# Altium footprint library Kilian_UCC_Library.PcbLib: 153 footprints (part 9 of 10)
Each footprint in its own frame and in the unit in brackets; x right, y up, seen from the top. Pads: shape width x height; smd on the part's side, far side on the other; paste and mask are expansions set on the pad; w line width, h text height; cw(c..) or ccw(c..) is an arc to the next point about the centre after c.
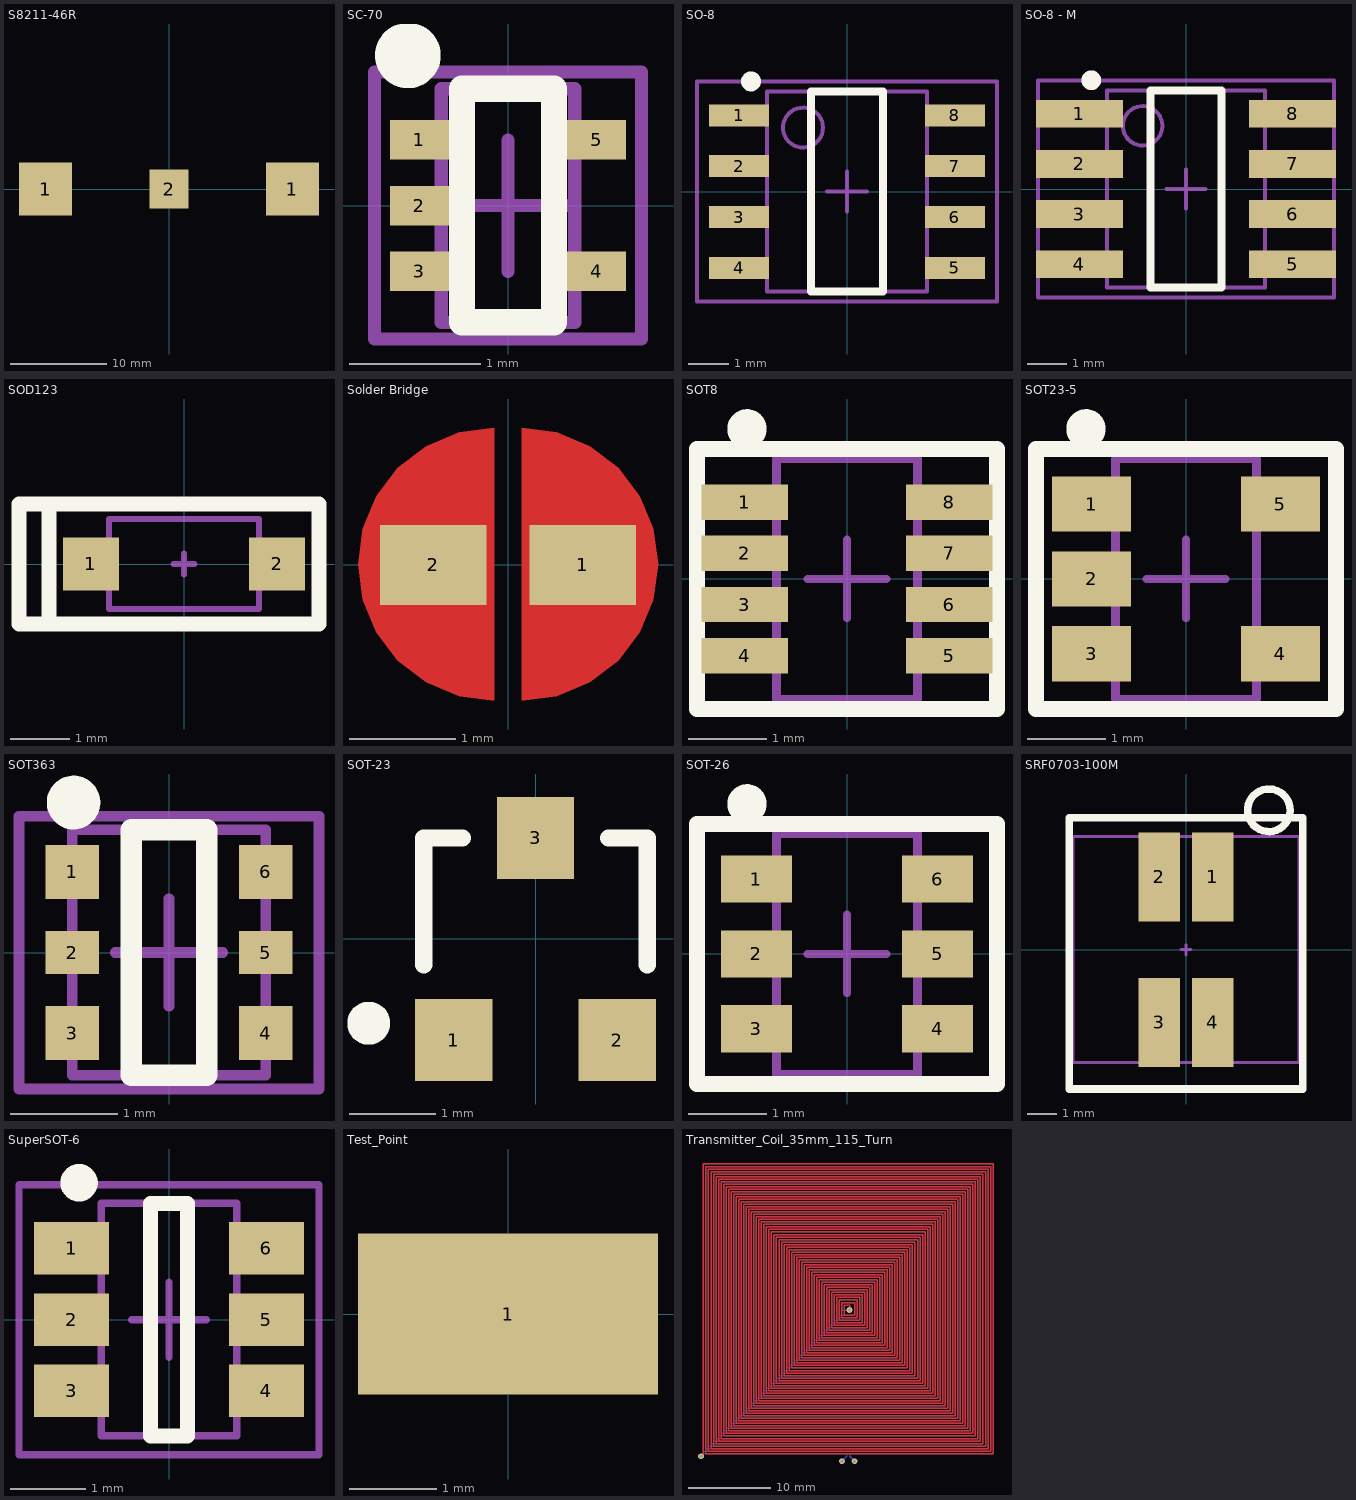
[diagram p8: the footprints below, top view; thin cyan lines are the x and y axes]

## S8211-46R [mm]
pads (3):
  rect 5.5x5.5 smd: 1(-12.8,0) 1(12.8,0)
  rect 4x4 smd: 2(0,0)
3D body: height 4, standoff 0, extent -15.35,-10.986 15.351,8.95

## SC-70 [mm]
height 1.45
pads (5):
  rect 0.45x0.3 smd mask+0.05: 1(-0.675,0.5) 2(-0.675,0) 3(-0.675,-0.5) 4(0.675,-0.5) 5(0.675,0.5)
Top Overlay:
  circle w0.25: c-0.762,1.143 r0.125
  lines w0.2: -0.35,-0.889 0.35,-0.889 0.35,0.889 -0.35,0.889 -0.35,-0.889
Mechanical 13:
  lines w0.1: -0.508,-0.889 -0.508,0.889 0.508,0.889 0.508,-0.889 -0.508,-0.889
Mechanical 15:
  lines w0.1: -0.5,0 0.5,0 ; 0,-0.5 0,0.5 ; -1.016,-1.016 -1.016,1.016 1.016,1.016 1.016,-1.016 -1.016,-1.016
3D body: height 1.45, standoff 0, extent -0.9,-0.762 0.9,0.762

## SO-8 [mm] "SOIC, 8-Leads, Body 4.9x3.9mm, Pitch 1.27mm, IPC Medium Density"
height 1.75
pads (8):
  rect 1.5x0.55 smd: 1(-2.7,1.905) 2(-2.7,0.635) 3(-2.7,-0.635) 4(-2.7,-1.905) 5(2.7,-1.905) 6(2.7,-0.635) 7(2.7,0.635) 8(2.7,1.905)
Top Overlay:
  circle w0.25: c-2.4,2.755 r0.125
  lines w0.2: -0.9,-2.5 0.9,-2.5 0.9,2.5 -0.9,2.5 -0.9,-2.5
Mechanical 13:
  circle w0.1: c-1.1,1.6 r0.5
  lines w0.1: -2,-2.5 2,-2.5 2,2.5 -2,2.5 -2,-2.5
Mechanical 15:
  lines w0.1: -0.5,0 0.5,0 ; 0,-0.5 0,0.5 ; -3.75,-2.75 3.75,-2.75 3.75,2.75 -3.75,2.75 -3.75,-2.75
3D body: height 1.75, standoff 0, extent -2,-2.5 2,2.5

## SO-8 - M [mm] "SOIC, 8-Leads, Body 4.9x3.9mm, Pitch 1.27mm, IPC Medium Density"
height 1.75
pads (8):
  rect 2.2x0.7 smd: 1(-2.7,1.905) 2(-2.7,0.635) 3(-2.7,-0.635) 4(-2.7,-1.905) 5(2.7,-1.905) 6(2.7,-0.635) 7(2.7,0.635) 8(2.7,1.905)
Top Overlay:
  circle w0.25: c-2.4,2.755 r0.125
  lines w0.2: -0.9,-2.5 -0.9,2.5 0.9,2.5 0.9,-2.5 -0.9,-2.5
Mechanical 13:
  circle w0.1: c-1.1,1.6 r0.5
  lines w0.1: -2,-2.5 -2,2.5 2,2.5 2,-2.5 -2,-2.5
Mechanical 15:
  lines w0.1: -0.5,0 0.5,0 ; 0,-0.5 0,0.5 ; -3.75,-2.75 -3.75,2.75 3.75,2.75 3.75,-2.75 -3.75,-2.75
3D body: height 1.75, standoff 0, extent -2,-2.5 2,2.5

## SOD123 [mm] "SOD123"
height 0.55
pads (2):
  rect 0.95x0.9 smd: 1(-1.575,0) 2(1.575,0)
Top Overlay:
  lines w0.254: -2.286,-1.016 2.286,-1.016 2.286,1.016 -2.286,1.016 ; -2.286,-1.016 -2.286,1.016 ; -2.286,-1.016 -2.794,-1.016 -2.794,1.016 -2.286,1.016
Mechanical 13:
  lines w0.1: -1.27,-0.762 -1.27,0.762 1.27,0.762 1.27,-0.762 -1.27,-0.762
Mechanical 15:
  lines w0.1: -0.175,0 0.175,0 ; 0,-0.175 0,0.175 ; -1.27,-0.762 -1.27,0.762 1.27,0.762 1.27,-0.762 -1.27,-0.762
3D body: height 1.35, standoff 0, extent -1.27,-0.762 1.27,0.762

## Solder Bridge [mm]
pads (2):
  rect 1x0.75 smd: 1(0.7,0) 2(-0.7,0)
Top Layer:
  region: -0.127,-1.275 -0.459,-1.232 -0.767,-1.104 -1.033,-0.9 -1.236,-0.635 -1.364,-0.326 -1.408,0.005 -1.364,0.337 -1.236,0.646 -1.033,0.911 -0.767,1.115 -0.459,1.243 -0.127,1.286 -0.127,1.275
  region: 0.127,-1.275 0.459,-1.232 0.767,-1.104 1.033,-0.9 1.236,-0.635 1.364,-0.326 1.408,0.005 1.364,0.337 1.236,0.646 1.033,0.911 0.767,1.115 0.459,1.243 0.127,1.286 0.127,1.275
Top Solder:
  region: 0.119,-1.271 0.451,-1.227 0.76,-1.099 1.025,-0.896 1.228,-0.63 1.356,-0.322 1.4,0.01 1.356,0.342 1.228,0.65 1.025,0.916 0.76,1.119 0.451,1.247 0.119,1.291 0.119,1.28
  region: -0.12,-1.275 -0.452,-1.232 -0.76,-1.104 -1.026,-0.9 -1.229,-0.635 -1.357,-0.326 -1.401,0.005 -1.357,0.337 -1.229,0.646 -1.026,0.911 -0.76,1.115 -0.452,1.243 -0.12,1.286 -0.12,1.275

## SOT8 [mm]
height 1.45
pads (8):
  rect 1.1x0.45 smd: 1(-1.3,0.975) 2(-1.3,0.325) 3(-1.3,-0.325) 4(-1.3,-0.975) 5(1.3,-0.975) 6(1.3,-0.325) 7(1.3,0.325) 8(1.3,0.975)
Top Overlay:
  circle w0.25: c-1.27,1.905 r0.125
  lines w0.2: -1.905,-1.651 1.905,-1.651 1.905,1.651 -1.905,1.651 -1.905,-1.651
Mechanical 13:
  lines w0.1: -0.9,-1.524 -0.9,1.524 0.9,1.524 0.9,-1.524 -0.9,-1.524
Mechanical 15:
  lines w0.1: -0.5,0 0.5,0 ; 0,-0.5 0,0.5 ; -0.889,-1.524 -0.889,1.524 0.889,1.524 0.889,-1.524 -0.889,-1.524
3D body: height 1.45, standoff 0, extent -0.9,-1.524 0.9,1.524

## SOT23-5 [mm]
height 1.45
pads (5):
  rect 1x0.7 smd: 1(-1.2,0.95) 2(-1.2,0) 3(-1.2,-0.95) 4(1.2,-0.95) 5(1.2,0.95)
Top Overlay:
  circle w0.25: c-1.27,1.905 r0.125
  lines w0.2: -1.905,-1.651 -1.905,1.651 1.905,1.651 1.905,-1.651 -1.905,-1.651
Mechanical 13:
  lines w0.1: -0.9,-1.524 0.9,-1.524 0.9,1.524 -0.9,1.524 -0.9,-1.524
Mechanical 15:
  lines w0.1: -0.5,0 0.5,0 ; 0,-0.5 0,0.5 ; -0.889,-1.524 0.889,-1.524 0.889,1.524 -0.889,1.524 -0.889,-1.524
3D body: height 1.45, standoff 0, extent -0.9,-1.524 0.9,1.524

## SOT363 [mm]
height 1.45
pads (6):
  rect 0.5x0.5 smd: 1(-0.9,0.75) 3(-0.9,-0.75) 4(0.9,-0.75) 6(0.9,0.75)
  rect 0.5x0.4 smd: 2(-0.9,0) 5(0.9,0)
Top Overlay:
  circle w0.25: c-0.889,1.397 r0.125
  lines w0.2: -0.35,-1.143 0.35,-1.143 0.35,1.143 -0.35,1.143 -0.35,-1.143
Mechanical 13:
  lines w0.1: -0.9,-1.143 -0.9,1.143 0.9,1.143 0.9,-1.143 -0.9,-1.143
Mechanical 15:
  lines w0.1: -0.5,0 0.5,0 ; 0,-0.5 0,0.5 ; -1.397,-1.27 -1.397,1.27 1.397,1.27 1.397,-1.27 -1.397,-1.27
3D body: height 1.45, standoff 0, extent -0.9,-1.143 0.9,1.143

## SOT-23 [mm] "SOT-23; 3 Leads; Body 3.0 x 2.5 mm, inc. leads (LxW max), Alternate Lead Configuration"
height 1.1
pads (3):
  rect 0.9x0.95 smd: 1(-0.95,-1.175) 2(0.95,-1.175) 3(0,1.175)
Top Overlay:
  circle w0.25: c-1.94,-0.98 r0.125
  lines w0.2: -1.3,-0.3 -1.3,1.175 -0.85,1.175 ; 0.85,1.175 1.3,1.175 1.3,-0.3
3D body: height 1, standoff 0, extent -1.524,-1.275 1.476,1.275

## SOT-26 [mm]
height 1.45
pads (6):
  rect 0.9x0.6 smd: 1(-1.15,0.95) 2(-1.15,0) 3(-1.15,-0.95) 4(1.15,-0.95) 5(1.15,0) 6(1.15,0.95)
Top Overlay:
  circle w0.25: c-1.27,1.905 r0.125
  lines w0.2: -1.905,-1.651 1.905,-1.651 1.905,1.651 -1.905,1.651 -1.905,-1.651
Mechanical 13:
  lines w0.1: -0.9,-1.524 -0.9,1.524 0.9,1.524 0.9,-1.524 -0.9,-1.524
Mechanical 15:
  lines w0.1: -0.5,0 0.5,0 ; 0,-0.5 0,0.5 ; -0.889,-1.524 -0.889,1.524 0.889,1.524 0.889,-1.524 -0.889,-1.524
3D body: height 1.45, standoff 0, extent -0.9,-1.524 0.9,1.524

## SRF0703-100M [mm] "SRF0703 Series - Dual-Winding Shielded Power Inductors"
height 3.4
pads (4):
  rect 1.4x3 smd: 1(0.9,2.45) 2(-0.9,2.45) 3(-0.9,-2.45) 4(0.9,-2.45)
Top Overlay:
  circle w0.254: c2.794,4.699 r0.718
  lines w0.254: -3.937,-4.699 -3.937,-4.445 -3.937,4.445 3.937,4.445 3.937,-4.699 -3.683,-4.699 -3.937,-4.699
Mechanical 15:
  lines w0.1: -0.175,0 0.175,0 ; 0,-0.175 0,0.175 ; -3.81,-3.8 -3.81,3.81 3.81,3.81 3.81,-3.8 -3.81,-3.8
3D body: height 3.2, standoff -0.2, extent -3.8,-3.8 3.8,3.8

## Star [mm]

## SuperSOT-6 [mm]
height 1.45
pads (6):
  rect 1x0.7 smd: 1(-1.3,0.95) 2(-1.3,0) 3(-1.3,-0.95) 4(1.3,-0.95) 5(1.3,0) 6(1.3,0.95)
Top Overlay:
  circle w0.25: c-1.2,1.825 r0.125
  lines w0.2: -0.25,-1.55 0.25,-1.55 0.25,1.55 -0.25,1.55 -0.25,-1.55
Mechanical 13:
  lines w0.1: -0.9,-1.55 -0.9,1.55 0.9,1.55 0.9,-1.55 -0.9,-1.55
Mechanical 15:
  lines w0.1: -0.5,0 0.5,0 ; 0,-0.5 0,0.5 ; -2,-1.8 -2,1.8 2,1.8 2,-1.8 -2,-1.8
3D body: height 1.45, standoff 0, extent -0.9,-1.55 0.9,1.55

## Test_Point [mm] "Harwin Test Point"
height 2
pads (1):
  rect 3.45x1.85 smd: 1(0,0)
3D body: height 2, standoff -0.05, extent -1.625,-0.762 1.625,0.888

## Transmitter_Coil_35mm_115_Turn [mil]
pads (2):
  round 27 hole 13: 1(-48960,-48576) 2(-48900,-48576)
via -48924,-47856 diameter 27 hole 13
via -49632,-48552 diameter 27 hole 13
Top Layer:
  lines w6: -49632,-48552 -49620,-48540 -49620,-47160 -48240,-47160 -48240,-48540 -49608,-48540 -49608,-47172 -48252,-47172 -48252,-48528 -49596,-48528 -49596,-47184 -48264,-47184 -48264,-48516 -49584,-48516 -49584,-47196 -48276,-47196 -48276,-48504 -49572,-48504 -49572,-47208 -48288,-47208 -48288,-48492 -49560,-48492 -49560,-47220 -48300,-47220 -48300,-48480 -49548,-48480 -49548,-47232 -48312,-47232 -48312,-48468 -49536,-48468 -49536,-47244 -48324,-47244 -48324,-48456 -49524,-48456 -49524,-47256 -48336,-47256 -48336,-48444 -49512,-48444 -49512,-47268 -48348,-47268 -48348,-48432 -49500,-48432 -49500,-47280 -48360,-47280 -48360,-48420 -49488,-48420 -49488,-47292 -48372,-47292 -48372,-48408 -49476,-48408 -49476,-47304 -48384,-47304 -48384,-48396 -49464,-48396 -49464,-47316 -48396,-47316 -48396,-48384 -49452,-48384 -49452,-47328 -48408,-47328 -48408,-48372 -49440,-48372 -49440,-47340 -48420,-47340 -48420,-48360 -49428,-48360 -49428,-47352 -48432,-47352 -48432,-48348 -49416,-48348 -49416,-47364 -48444,-47364 -48444,-48336 -49404,-48336 -49404,-47376 -48456,-47376 -48456,-48324 -49392,-48324 -49392,-47388 -48468,-47388 -48468,-48312 -49380,-48312 -49380,-47400 -48480,-47400 -48480,-48300 -49368,-48300 -49368,-47412 -48492,-47412 -48492,-48288 -49356,-48288 -49356,-47424 -48504,-47424 -48504,-48276 -49344,-48276 -49344,-47436 -48516,-47436 -48516,-48264 -49332,-48264 -49332,-47448 -48528,-47448 -48528,-48252 -49320,-48252 -49320,-47460 -48540,-47460 -48540,-48240 -49308,-48240 -49308,-47472 -48552,-47472 -48552,-48228 -49296,-48228 -49296,-47484 -48564,-47484 -48564,-48216 -49284,-48216 -49284,-47496 -48576,-47496 -48576,-48204 -49272,-48204 -49272,-47508 -48588,-47508 -48588,-48192 -49260,-48192 -49260,-47520 -48600,-47520 -48600,-48180 -49248,-48180 -49248,-47532 -48612,-47532 -48612,-48168 -49236,-48168 -49236,-47544 -48624,-47544 -48624,-48156 -49224,-48156 -49224,-47556 -48636,-47556 -48636,-48144 -49212,-48144 -49212,-47568 -48648,-47568 -48648,-48132 -49200,-48132 -49200,-47580 -48660,-47580 -48660,-48120 -49188,-48120 -49188,-47592 -48672,-47592 -48672,-48108 -49176,-48108 -49176,-47604 -48684,-47604 -48684,-48096 -49164,-48096 -49164,-47616 -48696,-47616 -48696,-48084 -49152,-48084 -49152,-47628 -48708,-47628 -48708,-48072 -49140,-48072 -49140,-47640 -48720,-47640 -48720,-48060 -49128,-48060 -49128,-47652 -48732,-47652 -48732,-48048 -49116,-48048 -49116,-47664 -48744,-47664 -48744,-48036 -49104,-48036 -49104,-47676 -48756,-47676 -48756,-48024 -49092,-48024 -49092,-47688 -48768,-47688 -48768,-48012 -49080,-48012 -49080,-47700 -48780,-47700 -48780,-48000 -49068,-48000 -49068,-47712 -48792,-47712 -48792,-47988 -49056,-47988 -49056,-47724 -48804,-47724 -48804,-47976 -49044,-47976 -49044,-47736 -48816,-47736 -48816,-47964 -49032,-47964 -49032,-47748 -48828,-47748 -48828,-47952 -49020,-47952 -49020,-47760 -48840,-47760 -48840,-47940 -49008,-47940 -49008,-47772 -48852,-47772 -48852,-47928 -48996,-47928 -48996,-47784 -48864,-47784 -48864,-47916 -48984,-47916 -48984,-47796 -48876,-47796 -48876,-47904 -48972,-47904 -48972,-47808 -48888,-47808 -48888,-47892 -48960,-47892 -48960,-47820 -48900,-47820 -48900,-47880 -48948,-47880 -48948,-47832 -48924,-47832 -48924,-47856
Bottom Layer:
  lines w6: -49632,-48552 -49620,-48540 -48936,-48540 -48936,-48552 -48960,-48576 ; -48924,-47856 -48960,-47856 -48960,-47820 -48900,-47820 -48900,-47880 -48972,-47880 -48972,-47808 -48888,-47808 -48888,-47892 -48984,-47892 -48984,-47796 -48876,-47796 -48876,-47904 -48996,-47904 -48996,-47784 -48864,-47784 -48864,-47916 -49008,-47916 -49008,-47772 -48852,-47772 -48852,-47928 -49020,-47928 -49020,-47760 -48840,-47760 -48840,-47940 -49032,-47940 -49032,-47748 -48828,-47748 -48828,-47952 -49044,-47952 -49044,-47736 -48816,-47736 -48816,-47964 -49056,-47964 -49056,-47724 -48804,-47724 -48804,-47976 -49068,-47976 -49068,-47712 -48792,-47712 -48792,-47988 -49080,-47988 -49080,-47700 -48780,-47700 -48780,-48000 -49092,-48000 -49092,-47688 -48768,-47688 -48768,-48012 -49104,-48012 -49104,-47676 -48756,-47676 -48756,-48024 -49116,-48024 -49116,-47664 -48744,-47664 -48744,-48036 -49128,-48036 -49128,-47652 -48732,-47652 -48732,-48048 -49140,-48048 -49140,-47640 -48720,-47640 -48720,-48060 -49152,-48060 -49152,-47628 -48708,-47628 -48708,-48072 -49164,-48072 -49164,-47616 -48696,-47616 -48696,-48084 -49176,-48084 -49176,-47604 -48684,-47604 -48684,-48096 -49188,-48096 -49188,-47592 -48672,-47592 -48672,-48108 -49200,-48108 -49200,-47580 -48660,-47580 -48660,-48120 -49212,-48120 -49212,-47568 -48648,-47568 -48648,-48132 -49224,-48132 -49224,-47556 -48636,-47556 -48636,-48144 -49236,-48144 -49236,-47544 -48624,-47544 -48624,-48156 -49248,-48156 -49248,-47532 -48612,-47532 -48612,-48168 -49260,-48168 -49260,-47520 -48600,-47520 -48600,-48180 -49272,-48180 -49272,-47508 -48588,-47508 -48588,-48192 -49284,-48192 -49284,-47496 -48576,-47496 -48576,-48204 -49296,-48204 -49296,-47484 -48564,-47484 -48564,-48216 -49308,-48216 -49308,-47472 -48552,-47472 -48552,-48228 -49320,-48228 -49320,-47460 -48540,-47460 -48540,-48240 -49332,-48240 -49332,-47448 -48528,-47448 -48528,-48252 -49344,-48252 -49344,-47436 -48516,-47436 -48516,-48264 -49356,-48264 -49356,-47424 -48504,-47424 -48504,-48276 -49368,-48276 -49368,-47412 -48492,-47412 -48492,-48288 -49380,-48288 -49380,-47400 -48480,-47400 -48480,-48300 -49392,-48300 -49392,-47388 -48468,-47388 -48468,-48312 -49404,-48312 -49404,-47376 -48456,-47376 -48456,-48324 -49416,-48324 -49416,-47364 -48444,-47364 -48444,-48336 -49428,-48336 -49428,-47352 -48432,-47352 -48432,-48348 -49440,-48348 -49440,-47340 -48420,-47340 -48420,-48360 -49452,-48360 -49452,-47328 -48408,-47328 -48408,-48372 -49464,-48372 -49464,-47316 -48396,-47316 -48396,-48384 -49476,-48384 -49476,-47304 -48384,-47304 -48384,-48396 -49488,-48396 -49488,-47292 -48372,-47292 -48372,-48408 -49500,-48408 -49500,-47280 -48360,-47280 -48360,-48420 -49512,-48420 -49512,-47268 -48348,-47268 -48348,-48432 -49524,-48432 -49524,-47256 -48336,-47256 -48336,-48444 -49536,-48444 -49536,-47244 -48324,-47244 -48324,-48456 -49548,-48456 -49548,-47232 -48312,-47232 -48312,-48468 -49560,-48468 -49560,-47220 -48300,-47220 -48300,-48480 -49572,-48480 -49572,-47208 -48288,-47208 -48288,-48492 -49584,-48492 -49584,-47196 -48276,-47196 -48276,-48504 -49596,-48504 -49596,-47184 -48264,-47184 -48264,-48516 -49608,-48516 -49608,-47172 -48252,-47172 -48252,-48528 -49620,-48528 -49620,-47160 -48240,-47160 -48240,-48540 -48924,-48540 -48924,-48552 -48900,-48576